# EAGLE library part MICROSD_AMPHENOL_GTFP084328 (library 07-Retrocomputing)
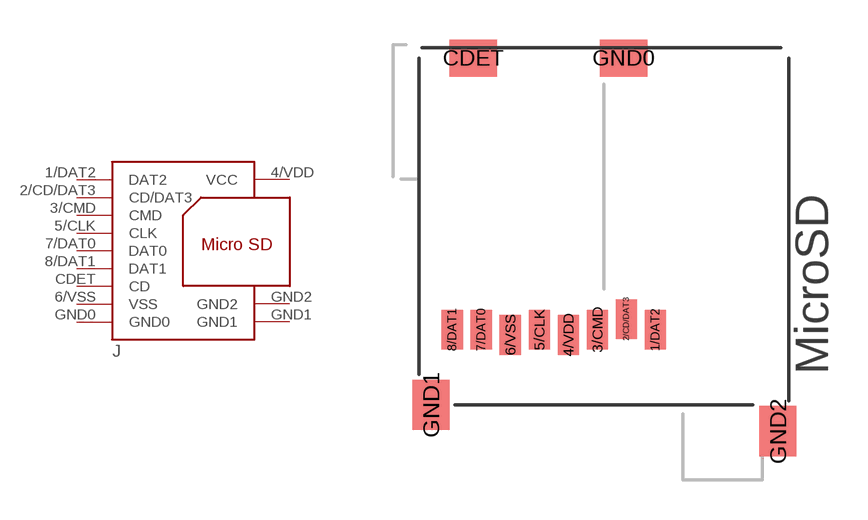
[diagram p27: symbol with the pads of MICROSD_AMPHENOL_GTFP08432B1HR; footprint MICROSD_AMPHENOL_GTFP08432B1HR]

Designator prefix J

## MICROSD_AMPHENOL_GTFP084328  [MICROSD_AMPHENOL_GTFP08432B1HR]
1/DAT2  DAT2
2/CD/DAT3  CD/DAT3
3/CMD  CMD
4/VDD  VCC
5/CLK  CLK
6/VSS  VSS
7/DAT0  DAT0
8/DAT1  DAT1
CDET  CD
GND0  GND0
GND1  GND1
GND2  GND2

## Footprint MICROSD_AMPHENOL_GTFP08432B1HR (pad centres in mm)
smd 0.8 x 1.5: 1/DAT2 1.95,-10.3; 2/CD/DAT3 0.85,-9.9; 3/CMD -0.25,-10.3; 4/VDD -1.35,-10.5; 5/CLK -2.45,-10.3; 6/VSS -3.55,-10.5; 7/DAT0 -4.65,-10.3; 8/DAT1 -5.75,-10.3
smd 1.8 x 1.4: CDET -4.95,0; GND0 0.75,0
smd 1.4 x 1.9: GND1 -6.55,-13.15; GND2 6.6,-14.15